# Altium schematic symbol library T495D476M025ATE120.SchLib: 1 symbol
Pins are listed as number, name and electrical type; pins without a type are passive.

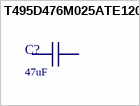
[diagram p0: symbol T495D476M025ATE120]

## T495D476M025ATE120
designator C?  verdi: 47uF  (hidden comment: T495D476M025ATE120)
Manufacturer: Kemet; Farnell: 2395821; MPN: T495D476M025ATE120
footprint CAPMP7342X30N (Molded Capacitor, 2-Leads, Body 7,30x4,25mm, IPC Medium Density)
pins: 1, 2